# Altium schematic symbol library Lib_PID_Diod.SchLib: 3 symbols
Pins are listed as number, name and electrical type; pins without a type are passive.

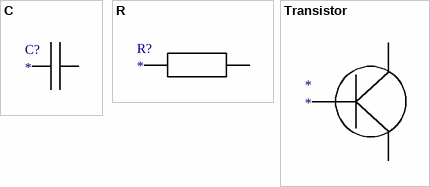
[diagram p0: symbols C to Transistor]

## C
designator C?
pins: 1, 2

## R
designator R?
pins: 1, 2

## Transistor
designator *
pins: 1, 2, 3